# Altium footprint library TMDX654GPEVM_BRD.PcbLib: 153 footprints (part 5 of 12)
Each footprint in its own frame and in the unit in brackets; x right, y up, seen from the top. Pads: shape width x height; smd on the part's side, far side on the other; paste and mask are expansions set on the pad; w line width, h text height; cw(c..) or ccw(c..) is an arc to the next point about the centre after c.
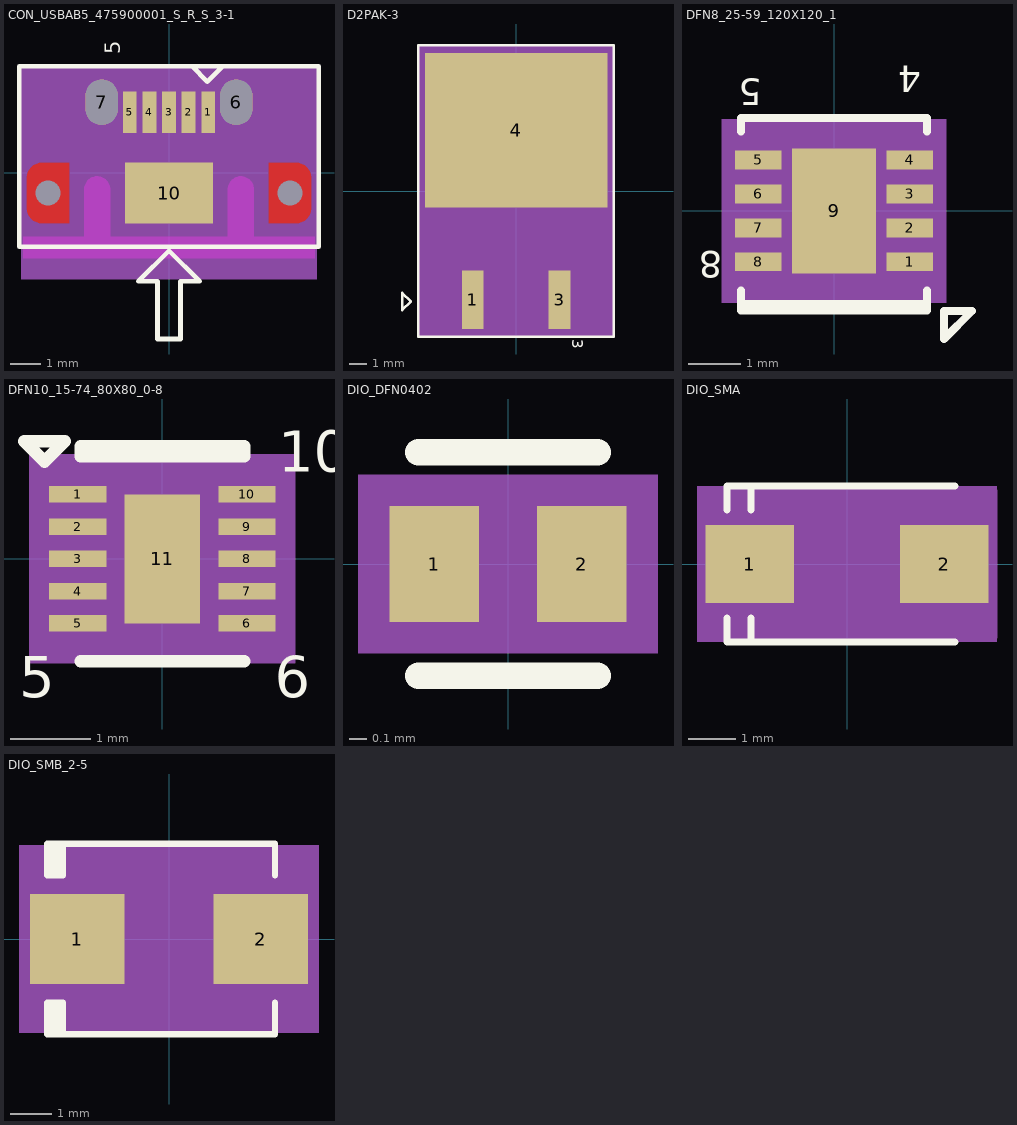
[diagram p4: the footprints below, top view; thin cyan lines are the x and y axes]

## CON_USBAB5_475900001_S_R_S_3-1 [mil] "CON_USBAB5_475900001_S_R_S_3-1"
pads (10):
  rect 18x54 smd: 1(51.18,78.81) 2(25.59,78.81) 3(0,78.81) 4(-25.59,78.81) 5(-51.18,78.81)
  oval 42x59 hole 42 slot 59 at 90 deg: 6(87.6,91.61) 7(-87.6,91.61)
  oct 1x1 hole 32: 8(-157.48,-26.5) 9(157.48,-26.5)
  rect 114x79 smd: 10(0,-26.5)
Top Layer:
  region: 129.92,-66 165.35,-66 167.07,-65.93 168.77,-65.7 170.45,-65.33 172.09,-64.81 173.67,-64.16 175.2,-63.36 176.64,-62.44 178.01,-61.39 179.27,-60.23 180.43,-58.97 181.48,-57.61 182.4,-56.16 183.19,-54.63 183.85,-53.05 184.37,-51.41 184.74,-49.73 184.96,-48.03 185.04,-46.31 185.04,-6.68 184.96,-4.97 184.74,-3.27 184.37,-1.59 183.85,0.05 183.19,1.63 182.4,3.16 181.48,4.61 180.43,5.97 179.27,7.23 178.01,8.39 176.64,9.44 175.2,10.36 173.67,11.16 172.09,11.81 170.45,12.33 168.77,12.7 167.07,12.93 165.35,13 129.92,13
  region: 129.92,-66 165.35,-66 167.07,-65.93 168.77,-65.7 170.45,-65.33 172.09,-64.81 173.67,-64.16 175.2,-63.36 176.64,-62.44 178.01,-61.39 179.27,-60.23 180.43,-58.97 181.48,-57.61 182.4,-56.16 183.19,-54.63 183.85,-53.05 184.37,-51.41 184.74,-49.73 184.96,-48.03 185.04,-46.31 185.04,-6.68 184.96,-4.97 184.74,-3.27 184.37,-1.59 183.85,0.05 183.19,1.63 182.4,3.16 181.48,4.61 180.43,5.97 179.27,7.23 178.01,8.39 176.64,9.44 175.2,10.36 173.67,11.16 172.09,11.81 170.45,12.33 168.77,12.7 167.07,12.93 165.35,13 129.92,13
  region: -129.92,13 -165.35,13 -167.07,12.93 -168.77,12.7 -170.45,12.33 -172.09,11.81 -173.67,11.16 -175.2,10.36 -176.64,9.44 -178.01,8.39 -179.27,7.23 -180.43,5.97 -181.48,4.61 -182.4,3.16 -183.19,1.63 -183.85,0.05 -184.37,-1.59 -184.74,-3.27 -184.96,-4.97 -185.04,-6.68 -185.04,-46.31 -184.96,-48.03 -184.74,-49.73 -184.37,-51.41 -183.85,-53.05 -183.19,-54.63 -182.4,-56.16 -181.48,-57.61 -180.43,-58.97 -179.27,-60.23 -178.01,-61.39 -176.64,-62.44 -175.2,-63.36 -173.67,-64.16 -172.09,-64.81 -170.45,-65.33 -168.77,-65.7 -167.07,-65.93 -165.35,-66 -129.92,-66
  region: -129.92,13 -165.35,13 -167.07,12.93 -168.77,12.7 -170.45,12.33 -172.09,11.81 -173.67,11.16 -175.2,10.36 -176.64,9.44 -178.01,8.39 -179.27,7.23 -180.43,5.97 -181.48,4.61 -182.4,3.16 -183.19,1.63 -183.85,0.05 -184.37,-1.59 -184.74,-3.27 -184.96,-4.97 -185.04,-6.68 -185.04,-46.31 -184.96,-48.03 -184.74,-49.73 -184.37,-51.41 -183.85,-53.05 -183.19,-54.63 -182.4,-56.16 -181.48,-57.61 -180.43,-58.97 -179.27,-60.23 -178.01,-61.39 -176.64,-62.44 -175.2,-63.36 -173.67,-64.16 -172.09,-64.81 -170.45,-65.33 -168.77,-65.7 -167.07,-65.93 -165.35,-66 -129.92,-66
Mid-Layer 1:
  region: 129.92,-66 165.35,-66 167.07,-65.93 168.77,-65.7 170.45,-65.33 172.09,-64.81 173.67,-64.16 175.2,-63.36 176.64,-62.44 178.01,-61.39 179.27,-60.23 180.43,-58.97 181.48,-57.61 182.4,-56.16 183.19,-54.63 183.85,-53.05 184.37,-51.41 184.74,-49.73 184.96,-48.03 185.04,-46.31 185.04,-6.68 184.96,-4.97 184.74,-3.27 184.37,-1.59 183.85,0.05 183.19,1.63 182.4,3.16 181.48,4.61 180.43,5.97 179.27,7.23 178.01,8.39 176.64,9.44 175.2,10.36 173.67,11.16 172.09,11.81 170.45,12.33 168.77,12.7 167.07,12.93 165.35,13 129.92,13
  region: 129.92,-66 165.35,-66 167.07,-65.93 168.77,-65.7 170.45,-65.33 172.09,-64.81 173.67,-64.16 175.2,-63.36 176.64,-62.44 178.01,-61.39 179.27,-60.23 180.43,-58.97 181.48,-57.61 182.4,-56.16 183.19,-54.63 183.85,-53.05 184.37,-51.41 184.74,-49.73 184.96,-48.03 185.04,-46.31 185.04,-6.68 184.96,-4.97 184.74,-3.27 184.37,-1.59 183.85,0.05 183.19,1.63 182.4,3.16 181.48,4.61 180.43,5.97 179.27,7.23 178.01,8.39 176.64,9.44 175.2,10.36 173.67,11.16 172.09,11.81 170.45,12.33 168.77,12.7 167.07,12.93 165.35,13 129.92,13
  region: -129.92,13 -165.35,13 -167.07,12.93 -168.77,12.7 -170.45,12.33 -172.09,11.81 -173.67,11.16 -175.2,10.36 -176.64,9.44 -178.01,8.39 -179.27,7.23 -180.43,5.97 -181.48,4.61 -182.4,3.16 -183.19,1.63 -183.85,0.05 -184.37,-1.59 -184.74,-3.27 -184.96,-4.97 -185.04,-6.68 -185.04,-46.31 -184.96,-48.03 -184.74,-49.73 -184.37,-51.41 -183.85,-53.05 -183.19,-54.63 -182.4,-56.16 -181.48,-57.61 -180.43,-58.97 -179.27,-60.23 -178.01,-61.39 -176.64,-62.44 -175.2,-63.36 -173.67,-64.16 -172.09,-64.81 -170.45,-65.33 -168.77,-65.7 -167.07,-65.93 -165.35,-66 -129.92,-66
  region: -129.92,13 -165.35,13 -167.07,12.93 -168.77,12.7 -170.45,12.33 -172.09,11.81 -173.67,11.16 -175.2,10.36 -176.64,9.44 -178.01,8.39 -179.27,7.23 -180.43,5.97 -181.48,4.61 -182.4,3.16 -183.19,1.63 -183.85,0.05 -184.37,-1.59 -184.74,-3.27 -184.96,-4.97 -185.04,-6.68 -185.04,-46.31 -184.96,-48.03 -184.74,-49.73 -184.37,-51.41 -183.85,-53.05 -183.19,-54.63 -182.4,-56.16 -181.48,-57.61 -180.43,-58.97 -179.27,-60.23 -178.01,-61.39 -176.64,-62.44 -175.2,-63.36 -173.67,-64.16 -172.09,-64.81 -170.45,-65.33 -168.77,-65.7 -167.07,-65.93 -165.35,-66 -129.92,-66
Mid-Layer 2:
  region: 129.92,-66 165.35,-66 167.07,-65.93 168.77,-65.7 170.45,-65.33 172.09,-64.81 173.67,-64.16 175.2,-63.36 176.64,-62.44 178.01,-61.39 179.27,-60.23 180.43,-58.97 181.48,-57.61 182.4,-56.16 183.19,-54.63 183.85,-53.05 184.37,-51.41 184.74,-49.73 184.96,-48.03 185.04,-46.31 185.04,-6.68 184.96,-4.97 184.74,-3.27 184.37,-1.59 183.85,0.05 183.19,1.63 182.4,3.16 181.48,4.61 180.43,5.97 179.27,7.23 178.01,8.39 176.64,9.44 175.2,10.36 173.67,11.16 172.09,11.81 170.45,12.33 168.77,12.7 167.07,12.93 165.35,13 129.92,13
  region: 129.92,-66 165.35,-66 167.07,-65.93 168.77,-65.7 170.45,-65.33 172.09,-64.81 173.67,-64.16 175.2,-63.36 176.64,-62.44 178.01,-61.39 179.27,-60.23 180.43,-58.97 181.48,-57.61 182.4,-56.16 183.19,-54.63 183.85,-53.05 184.37,-51.41 184.74,-49.73 184.96,-48.03 185.04,-46.31 185.04,-6.68 184.96,-4.97 184.74,-3.27 184.37,-1.59 183.85,0.05 183.19,1.63 182.4,3.16 181.48,4.61 180.43,5.97 179.27,7.23 178.01,8.39 176.64,9.44 175.2,10.36 173.67,11.16 172.09,11.81 170.45,12.33 168.77,12.7 167.07,12.93 165.35,13 129.92,13
  region: -129.92,13 -165.35,13 -167.07,12.93 -168.77,12.7 -170.45,12.33 -172.09,11.81 -173.67,11.16 -175.2,10.36 -176.64,9.44 -178.01,8.39 -179.27,7.23 -180.43,5.97 -181.48,4.61 -182.4,3.16 -183.19,1.63 -183.85,0.05 -184.37,-1.59 -184.74,-3.27 -184.96,-4.97 -185.04,-6.68 -185.04,-46.31 -184.96,-48.03 -184.74,-49.73 -184.37,-51.41 -183.85,-53.05 -183.19,-54.63 -182.4,-56.16 -181.48,-57.61 -180.43,-58.97 -179.27,-60.23 -178.01,-61.39 -176.64,-62.44 -175.2,-63.36 -173.67,-64.16 -172.09,-64.81 -170.45,-65.33 -168.77,-65.7 -167.07,-65.93 -165.35,-66 -129.92,-66
  region: -129.92,13 -165.35,13 -167.07,12.93 -168.77,12.7 -170.45,12.33 -172.09,11.81 -173.67,11.16 -175.2,10.36 -176.64,9.44 -178.01,8.39 -179.27,7.23 -180.43,5.97 -181.48,4.61 -182.4,3.16 -183.19,1.63 -183.85,0.05 -184.37,-1.59 -184.74,-3.27 -184.96,-4.97 -185.04,-6.68 -185.04,-46.31 -184.96,-48.03 -184.74,-49.73 -184.37,-51.41 -183.85,-53.05 -183.19,-54.63 -182.4,-56.16 -181.48,-57.61 -180.43,-58.97 -179.27,-60.23 -178.01,-61.39 -176.64,-62.44 -175.2,-63.36 -173.67,-64.16 -172.09,-64.81 -170.45,-65.33 -168.77,-65.7 -167.07,-65.93 -165.35,-66 -129.92,-66
Mid-Layer 3:
  region: 129.92,-66 165.35,-66 167.07,-65.93 168.77,-65.7 170.45,-65.33 172.09,-64.81 173.67,-64.16 175.2,-63.36 176.64,-62.44 178.01,-61.39 179.27,-60.23 180.43,-58.97 181.48,-57.61 182.4,-56.16 183.19,-54.63 183.85,-53.05 184.37,-51.41 184.74,-49.73 184.96,-48.03 185.04,-46.31 185.04,-6.68 184.96,-4.97 184.74,-3.27 184.37,-1.59 183.85,0.05 183.19,1.63 182.4,3.16 181.48,4.61 180.43,5.97 179.27,7.23 178.01,8.39 176.64,9.44 175.2,10.36 173.67,11.16 172.09,11.81 170.45,12.33 168.77,12.7 167.07,12.93 165.35,13 129.92,13
  region: 129.92,-66 165.35,-66 167.07,-65.93 168.77,-65.7 170.45,-65.33 172.09,-64.81 173.67,-64.16 175.2,-63.36 176.64,-62.44 178.01,-61.39 179.27,-60.23 180.43,-58.97 181.48,-57.61 182.4,-56.16 183.19,-54.63 183.85,-53.05 184.37,-51.41 184.74,-49.73 184.96,-48.03 185.04,-46.31 185.04,-6.68 184.96,-4.97 184.74,-3.27 184.37,-1.59 183.85,0.05 183.19,1.63 182.4,3.16 181.48,4.61 180.43,5.97 179.27,7.23 178.01,8.39 176.64,9.44 175.2,10.36 173.67,11.16 172.09,11.81 170.45,12.33 168.77,12.7 167.07,12.93 165.35,13 129.92,13
  region: -129.92,13 -165.35,13 -167.07,12.93 -168.77,12.7 -170.45,12.33 -172.09,11.81 -173.67,11.16 -175.2,10.36 -176.64,9.44 -178.01,8.39 -179.27,7.23 -180.43,5.97 -181.48,4.61 -182.4,3.16 -183.19,1.63 -183.85,0.05 -184.37,-1.59 -184.74,-3.27 -184.96,-4.97 -185.04,-6.68 -185.04,-46.31 -184.96,-48.03 -184.74,-49.73 -184.37,-51.41 -183.85,-53.05 -183.19,-54.63 -182.4,-56.16 -181.48,-57.61 -180.43,-58.97 -179.27,-60.23 -178.01,-61.39 -176.64,-62.44 -175.2,-63.36 -173.67,-64.16 -172.09,-64.81 -170.45,-65.33 -168.77,-65.7 -167.07,-65.93 -165.35,-66 -129.92,-66
  region: -129.92,13 -165.35,13 -167.07,12.93 -168.77,12.7 -170.45,12.33 -172.09,11.81 -173.67,11.16 -175.2,10.36 -176.64,9.44 -178.01,8.39 -179.27,7.23 -180.43,5.97 -181.48,4.61 -182.4,3.16 -183.19,1.63 -183.85,0.05 -184.37,-1.59 -184.74,-3.27 -184.96,-4.97 -185.04,-6.68 -185.04,-46.31 -184.96,-48.03 -184.74,-49.73 -184.37,-51.41 -183.85,-53.05 -183.19,-54.63 -182.4,-56.16 -181.48,-57.61 -180.43,-58.97 -179.27,-60.23 -178.01,-61.39 -176.64,-62.44 -175.2,-63.36 -173.67,-64.16 -172.09,-64.81 -170.45,-65.33 -168.77,-65.7 -167.07,-65.93 -165.35,-66 -129.92,-66
Mid-Layer 4:
  region: 129.92,-66 165.35,-66 167.07,-65.93 168.77,-65.7 170.45,-65.33 172.09,-64.81 173.67,-64.16 175.2,-63.36 176.64,-62.44 178.01,-61.39 179.27,-60.23 180.43,-58.97 181.48,-57.61 182.4,-56.16 183.19,-54.63 183.85,-53.05 184.37,-51.41 184.74,-49.73 184.96,-48.03 185.04,-46.31 185.04,-6.68 184.96,-4.97 184.74,-3.27 184.37,-1.59 183.85,0.05 183.19,1.63 182.4,3.16 181.48,4.61 180.43,5.97 179.27,7.23 178.01,8.39 176.64,9.44 175.2,10.36 173.67,11.16 172.09,11.81 170.45,12.33 168.77,12.7 167.07,12.93 165.35,13 129.92,13
  region: 129.92,-66 165.35,-66 167.07,-65.93 168.77,-65.7 170.45,-65.33 172.09,-64.81 173.67,-64.16 175.2,-63.36 176.64,-62.44 178.01,-61.39 179.27,-60.23 180.43,-58.97 181.48,-57.61 182.4,-56.16 183.19,-54.63 183.85,-53.05 184.37,-51.41 184.74,-49.73 184.96,-48.03 185.04,-46.31 185.04,-6.68 184.96,-4.97 184.74,-3.27 184.37,-1.59 183.85,0.05 183.19,1.63 182.4,3.16 181.48,4.61 180.43,5.97 179.27,7.23 178.01,8.39 176.64,9.44 175.2,10.36 173.67,11.16 172.09,11.81 170.45,12.33 168.77,12.7 167.07,12.93 165.35,13 129.92,13
  region: -129.92,13 -165.35,13 -167.07,12.93 -168.77,12.7 -170.45,12.33 -172.09,11.81 -173.67,11.16 -175.2,10.36 -176.64,9.44 -178.01,8.39 -179.27,7.23 -180.43,5.97 -181.48,4.61 -182.4,3.16 -183.19,1.63 -183.85,0.05 -184.37,-1.59 -184.74,-3.27 -184.96,-4.97 -185.04,-6.68 -185.04,-46.31 -184.96,-48.03 -184.74,-49.73 -184.37,-51.41 -183.85,-53.05 -183.19,-54.63 -182.4,-56.16 -181.48,-57.61 -180.43,-58.97 -179.27,-60.23 -178.01,-61.39 -176.64,-62.44 -175.2,-63.36 -173.67,-64.16 -172.09,-64.81 -170.45,-65.33 -168.77,-65.7 -167.07,-65.93 -165.35,-66 -129.92,-66
  region: -129.92,13 -165.35,13 -167.07,12.93 -168.77,12.7 -170.45,12.33 -172.09,11.81 -173.67,11.16 -175.2,10.36 -176.64,9.44 -178.01,8.39 -179.27,7.23 -180.43,5.97 -181.48,4.61 -182.4,3.16 -183.19,1.63 -183.85,0.05 -184.37,-1.59 -184.74,-3.27 -184.96,-4.97 -185.04,-6.68 -185.04,-46.31 -184.96,-48.03 -184.74,-49.73 -184.37,-51.41 -183.85,-53.05 -183.19,-54.63 -182.4,-56.16 -181.48,-57.61 -180.43,-58.97 -179.27,-60.23 -178.01,-61.39 -176.64,-62.44 -175.2,-63.36 -173.67,-64.16 -172.09,-64.81 -170.45,-65.33 -168.77,-65.7 -167.07,-65.93 -165.35,-66 -129.92,-66
Mid-Layer 5:
  region: 129.92,-66 165.35,-66 167.07,-65.93 168.77,-65.7 170.45,-65.33 172.09,-64.81 173.67,-64.16 175.2,-63.36 176.64,-62.44 178.01,-61.39 179.27,-60.23 180.43,-58.97 181.48,-57.61 182.4,-56.16 183.19,-54.63 183.85,-53.05 184.37,-51.41 184.74,-49.73 184.96,-48.03 185.04,-46.31 185.04,-6.68 184.96,-4.97 184.74,-3.27 184.37,-1.59 183.85,0.05 183.19,1.63 182.4,3.16 181.48,4.61 180.43,5.97 179.27,7.23 178.01,8.39 176.64,9.44 175.2,10.36 173.67,11.16 172.09,11.81 170.45,12.33 168.77,12.7 167.07,12.93 165.35,13 129.92,13
  region: 129.92,-66 165.35,-66 167.07,-65.93 168.77,-65.7 170.45,-65.33 172.09,-64.81 173.67,-64.16 175.2,-63.36 176.64,-62.44 178.01,-61.39 179.27,-60.23 180.43,-58.97 181.48,-57.61 182.4,-56.16 183.19,-54.63 183.85,-53.05 184.37,-51.41 184.74,-49.73 184.96,-48.03 185.04,-46.31 185.04,-6.68 184.96,-4.97 184.74,-3.27 184.37,-1.59 183.85,0.05 183.19,1.63 182.4,3.16 181.48,4.61 180.43,5.97 179.27,7.23 178.01,8.39 176.64,9.44 175.2,10.36 173.67,11.16 172.09,11.81 170.45,12.33 168.77,12.7 167.07,12.93 165.35,13 129.92,13
  region: -129.92,13 -165.35,13 -167.07,12.93 -168.77,12.7 -170.45,12.33 -172.09,11.81 -173.67,11.16 -175.2,10.36 -176.64,9.44 -178.01,8.39 -179.27,7.23 -180.43,5.97 -181.48,4.61 -182.4,3.16 -183.19,1.63 -183.85,0.05 -184.37,-1.59 -184.74,-3.27 -184.96,-4.97 -185.04,-6.68 -185.04,-46.31 -184.96,-48.03 -184.74,-49.73 -184.37,-51.41 -183.85,-53.05 -183.19,-54.63 -182.4,-56.16 -181.48,-57.61 -180.43,-58.97 -179.27,-60.23 -178.01,-61.39 -176.64,-62.44 -175.2,-63.36 -173.67,-64.16 -172.09,-64.81 -170.45,-65.33 -168.77,-65.7 -167.07,-65.93 -165.35,-66 -129.92,-66
  region: -129.92,13 -165.35,13 -167.07,12.93 -168.77,12.7 -170.45,12.33 -172.09,11.81 -173.67,11.16 -175.2,10.36 -176.64,9.44 -178.01,8.39 -179.27,7.23 -180.43,5.97 -181.48,4.61 -182.4,3.16 -183.19,1.63 -183.85,0.05 -184.37,-1.59 -184.74,-3.27 -184.96,-4.97 -185.04,-6.68 -185.04,-46.31 -184.96,-48.03 -184.74,-49.73 -184.37,-51.41 -183.85,-53.05 -183.19,-54.63 -182.4,-56.16 -181.48,-57.61 -180.43,-58.97 -179.27,-60.23 -178.01,-61.39 -176.64,-62.44 -175.2,-63.36 -173.67,-64.16 -172.09,-64.81 -170.45,-65.33 -168.77,-65.7 -167.07,-65.93 -165.35,-66 -129.92,-66
Mid-Layer 6:
  region: 129.92,-66 165.35,-66 167.07,-65.93 168.77,-65.7 170.45,-65.33 172.09,-64.81 173.67,-64.16 175.2,-63.36 176.64,-62.44 178.01,-61.39 179.27,-60.23 180.43,-58.97 181.48,-57.61 182.4,-56.16 183.19,-54.63 183.85,-53.05 184.37,-51.41 184.74,-49.73 184.96,-48.03 185.04,-46.31 185.04,-6.68 184.96,-4.97 184.74,-3.27 184.37,-1.59 183.85,0.05 183.19,1.63 182.4,3.16 181.48,4.61 180.43,5.97 179.27,7.23 178.01,8.39 176.64,9.44 175.2,10.36 173.67,11.16 172.09,11.81 170.45,12.33 168.77,12.7 167.07,12.93 165.35,13 129.92,13
  region: 129.92,-66 165.35,-66 167.07,-65.93 168.77,-65.7 170.45,-65.33 172.09,-64.81 173.67,-64.16 175.2,-63.36 176.64,-62.44 178.01,-61.39 179.27,-60.23 180.43,-58.97 181.48,-57.61 182.4,-56.16 183.19,-54.63 183.85,-53.05 184.37,-51.41 184.74,-49.73 184.96,-48.03 185.04,-46.31 185.04,-6.68 184.96,-4.97 184.74,-3.27 184.37,-1.59 183.85,0.05 183.19,1.63 182.4,3.16 181.48,4.61 180.43,5.97 179.27,7.23 178.01,8.39 176.64,9.44 175.2,10.36 173.67,11.16 172.09,11.81 170.45,12.33 168.77,12.7 167.07,12.93 165.35,13 129.92,13
  region: -129.92,13 -165.35,13 -167.07,12.93 -168.77,12.7 -170.45,12.33 -172.09,11.81 -173.67,11.16 -175.2,10.36 -176.64,9.44 -178.01,8.39 -179.27,7.23 -180.43,5.97 -181.48,4.61 -182.4,3.16 -183.19,1.63 -183.85,0.05 -184.37,-1.59 -184.74,-3.27 -184.96,-4.97 -185.04,-6.68 -185.04,-46.31 -184.96,-48.03 -184.74,-49.73 -184.37,-51.41 -183.85,-53.05 -183.19,-54.63 -182.4,-56.16 -181.48,-57.61 -180.43,-58.97 -179.27,-60.23 -178.01,-61.39 -176.64,-62.44 -175.2,-63.36 -173.67,-64.16 -172.09,-64.81 -170.45,-65.33 -168.77,-65.7 -167.07,-65.93 -165.35,-66 -129.92,-66
  region: -129.92,13 -165.35,13 -167.07,12.93 -168.77,12.7 -170.45,12.33 -172.09,11.81 -173.67,11.16 -175.2,10.36 -176.64,9.44 -178.01,8.39 -179.27,7.23 -180.43,5.97 -181.48,4.61 -182.4,3.16 -183.19,1.63 -183.85,0.05 -184.37,-1.59 -184.74,-3.27 -184.96,-4.97 -185.04,-6.68 -185.04,-46.31 -184.96,-48.03 -184.74,-49.73 -184.37,-51.41 -183.85,-53.05 -183.19,-54.63 -182.4,-56.16 -181.48,-57.61 -180.43,-58.97 -179.27,-60.23 -178.01,-61.39 -176.64,-62.44 -175.2,-63.36 -173.67,-64.16 -172.09,-64.81 -170.45,-65.33 -168.77,-65.7 -167.07,-65.93 -165.35,-66 -129.92,-66
Mid-Layer 7:
  region: 129.92,-66 165.35,-66 167.07,-65.93 168.77,-65.7 170.45,-65.33 172.09,-64.81 173.67,-64.16 175.2,-63.36 176.64,-62.44 178.01,-61.39 179.27,-60.23 180.43,-58.97 181.48,-57.61 182.4,-56.16 183.19,-54.63 183.85,-53.05 184.37,-51.41 184.74,-49.73 184.96,-48.03 185.04,-46.31 185.04,-6.68 184.96,-4.97 184.74,-3.27 184.37,-1.59 183.85,0.05 183.19,1.63 182.4,3.16 181.48,4.61 180.43,5.97 179.27,7.23 178.01,8.39 176.64,9.44 175.2,10.36 173.67,11.16 172.09,11.81 170.45,12.33 168.77,12.7 167.07,12.93 165.35,13 129.92,13
  region: 129.92,-66 165.35,-66 167.07,-65.93 168.77,-65.7 170.45,-65.33 172.09,-64.81 173.67,-64.16 175.2,-63.36 176.64,-62.44 178.01,-61.39 179.27,-60.23 180.43,-58.97 181.48,-57.61 182.4,-56.16 183.19,-54.63 183.85,-53.05 184.37,-51.41 184.74,-49.73 184.96,-48.03 185.04,-46.31 185.04,-6.68 184.96,-4.97 184.74,-3.27 184.37,-1.59 183.85,0.05 183.19,1.63 182.4,3.16 181.48,4.61 180.43,5.97 179.27,7.23 178.01,8.39 176.64,9.44 175.2,10.36 173.67,11.16 172.09,11.81 170.45,12.33 168.77,12.7 167.07,12.93 165.35,13 129.92,13
  region: -129.92,13 -165.35,13 -167.07,12.93 -168.77,12.7 -170.45,12.33 -172.09,11.81 -173.67,11.16 -175.2,10.36 -176.64,9.44 -178.01,8.39 -179.27,7.23 -180.43,5.97 -181.48,4.61 -182.4,3.16 -183.19,1.63 -183.85,0.05 -184.37,-1.59 -184.74,-3.27 -184.96,-4.97 -185.04,-6.68 -185.04,-46.31 -184.96,-48.03 -184.74,-49.73 -184.37,-51.41 -183.85,-53.05 -183.19,-54.63 -182.4,-56.16 -181.48,-57.61 -180.43,-58.97 -179.27,-60.23 -178.01,-61.39 -176.64,-62.44 -175.2,-63.36 -173.67,-64.16 -172.09,-64.81 -170.45,-65.33 -168.77,-65.7 -167.07,-65.93 -165.35,-66 -129.92,-66
  region: -129.92,13 -165.35,13 -167.07,12.93 -168.77,12.7 -170.45,12.33 -172.09,11.81 -173.67,11.16 -175.2,10.36 -176.64,9.44 -178.01,8.39 -179.27,7.23 -180.43,5.97 -181.48,4.61 -182.4,3.16 -183.19,1.63 -183.85,0.05 -184.37,-1.59 -184.74,-3.27 -184.96,-4.97 -185.04,-6.68 -185.04,-46.31 -184.96,-48.03 -184.74,-49.73 -184.37,-51.41 -183.85,-53.05 -183.19,-54.63 -182.4,-56.16 -181.48,-57.61 -180.43,-58.97 -179.27,-60.23 -178.01,-61.39 -176.64,-62.44 -175.2,-63.36 -173.67,-64.16 -172.09,-64.81 -170.45,-65.33 -168.77,-65.7 -167.07,-65.93 -165.35,-66 -129.92,-66
Mid-Layer 8:
  region: 129.92,-66 165.35,-66 167.07,-65.93 168.77,-65.7 170.45,-65.33 172.09,-64.81 173.67,-64.16 175.2,-63.36 176.64,-62.44 178.01,-61.39 179.27,-60.23 180.43,-58.97 181.48,-57.61 182.4,-56.16 183.19,-54.63 183.85,-53.05 184.37,-51.41 184.74,-49.73 184.96,-48.03 185.04,-46.31 185.04,-6.68 184.96,-4.97 184.74,-3.27 184.37,-1.59 183.85,0.05 183.19,1.63 182.4,3.16 181.48,4.61 180.43,5.97 179.27,7.23 178.01,8.39 176.64,9.44 175.2,10.36 173.67,11.16 172.09,11.81 170.45,12.33 168.77,12.7 167.07,12.93 165.35,13 129.92,13
  region: 129.92,-66 165.35,-66 167.07,-65.93 168.77,-65.7 170.45,-65.33 172.09,-64.81 173.67,-64.16 175.2,-63.36 176.64,-62.44 178.01,-61.39 179.27,-60.23 180.43,-58.97 181.48,-57.61 182.4,-56.16 183.19,-54.63 183.85,-53.05 184.37,-51.41 184.74,-49.73 184.96,-48.03 185.04,-46.31 185.04,-6.68 184.96,-4.97 184.74,-3.27 184.37,-1.59 183.85,0.05 183.19,1.63 182.4,3.16 181.48,4.61 180.43,5.97 179.27,7.23 178.01,8.39 176.64,9.44 175.2,10.36 173.67,11.16 172.09,11.81 170.45,12.33 168.77,12.7 167.07,12.93 165.35,13 129.92,13
  region: -129.92,13 -165.35,13 -167.07,12.93 -168.77,12.7 -170.45,12.33 -172.09,11.81 -173.67,11.16 -175.2,10.36 -176.64,9.44 -178.01,8.39 -179.27,7.23 -180.43,5.97 -181.48,4.61 -182.4,3.16 -183.19,1.63 -183.85,0.05 -184.37,-1.59 -184.74,-3.27 -184.96,-4.97 -185.04,-6.68 -185.04,-46.31 -184.96,-48.03 -184.74,-49.73 -184.37,-51.41 -183.85,-53.05 -183.19,-54.63 -182.4,-56.16 -181.48,-57.61 -180.43,-58.97 -179.27,-60.23 -178.01,-61.39 -176.64,-62.44 -175.2,-63.36 -173.67,-64.16 -172.09,-64.81 -170.45,-65.33 -168.77,-65.7 -167.07,-65.93 -165.35,-66 -129.92,-66
  region: -129.92,13 -165.35,13 -167.07,12.93 -168.77,12.7 -170.45,12.33 -172.09,11.81 -173.67,11.16 -175.2,10.36 -176.64,9.44 -178.01,8.39 -179.27,7.23 -180.43,5.97 -181.48,4.61 -182.4,3.16 -183.19,1.63 -183.85,0.05 -184.37,-1.59 -184.74,-3.27 -184.96,-4.97 -185.04,-6.68 -185.04,-46.31 -184.96,-48.03 -184.74,-49.73 -184.37,-51.41 -183.85,-53.05 -183.19,-54.63 -182.4,-56.16 -181.48,-57.61 -180.43,-58.97 -179.27,-60.23 -178.01,-61.39 -176.64,-62.44 -175.2,-63.36 -173.67,-64.16 -172.09,-64.81 -170.45,-65.33 -168.77,-65.7 -167.07,-65.93 -165.35,-66 -129.92,-66
Mid-Layer 9:
  region: 129.92,-66 165.35,-66 167.07,-65.93 168.77,-65.7 170.45,-65.33 172.09,-64.81 173.67,-64.16 175.2,-63.36 176.64,-62.44 178.01,-61.39 179.27,-60.23 180.43,-58.97 181.48,-57.61 182.4,-56.16 183.19,-54.63 183.85,-53.05 184.37,-51.41 184.74,-49.73 184.96,-48.03 185.04,-46.31 185.04,-6.68 184.96,-4.97 184.74,-3.27 184.37,-1.59 183.85,0.05 183.19,1.63 182.4,3.16 181.48,4.61 180.43,5.97 179.27,7.23 178.01,8.39 176.64,9.44 175.2,10.36 173.67,11.16 172.09,11.81 170.45,12.33 168.77,12.7 167.07,12.93 165.35,13 129.92,13
  region: 129.92,-66 165.35,-66 167.07,-65.93 168.77,-65.7 170.45,-65.33 172.09,-64.81 173.67,-64.16 175.2,-63.36 176.64,-62.44 178.01,-61.39 179.27,-60.23 180.43,-58.97 181.48,-57.61 182.4,-56.16 183.19,-54.63 183.85,-53.05 184.37,-51.41 184.74,-49.73 184.96,-48.03 185.04,-46.31 185.04,-6.68 184.96,-4.97 184.74,-3.27 184.37,-1.59 183.85,0.05 183.19,1.63 182.4,3.16 181.48,4.61 180.43,5.97 179.27,7.23 178.01,8.39 176.64,9.44 175.2,10.36 173.67,11.16 172.09,11.81 170.45,12.33 168.77,12.7 167.07,12.93 165.35,13 129.92,13
  region: -129.92,13 -165.35,13 -167.07,12.93 -168.77,12.7 -170.45,12.33 -172.09,11.81 -173.67,11.16 -175.2,10.36 -176.64,9.44 -178.01,8.39 -179.27,7.23 -180.43,5.97 -181.48,4.61 -182.4,3.16 -183.19,1.63 -183.85,0.05 -184.37,-1.59 -184.74,-3.27 -184.96,-4.97 -185.04,-6.68 -185.04,-46.31 -184.96,-48.03 -184.74,-49.73 -184.37,-51.41 -183.85,-53.05 -183.19,-54.63 -182.4,-56.16 -181.48,-57.61 -180.43,-58.97 -179.27,-60.23 -178.01,-61.39 -176.64,-62.44 -175.2,-63.36 -173.67,-64.16 -172.09,-64.81 -170.45,-65.33 -168.77,-65.7 -167.07,-65.93 -165.35,-66 -129.92,-66
  region: -129.92,13 -165.35,13 -167.07,12.93 -168.77,12.7 -170.45,12.33 -172.09,11.81 -173.67,11.16 -175.2,10.36 -176.64,9.44 -178.01,8.39 -179.27,7.23 -180.43,5.97 -181.48,4.61 -182.4,3.16 -183.19,1.63 -183.85,0.05 -184.37,-1.59 -184.74,-3.27 -184.96,-4.97 -185.04,-6.68 -185.04,-46.31 -184.96,-48.03 -184.74,-49.73 -184.37,-51.41 -183.85,-53.05 -183.19,-54.63 -182.4,-56.16 -181.48,-57.61 -180.43,-58.97 -179.27,-60.23 -178.01,-61.39 -176.64,-62.44 -175.2,-63.36 -173.67,-64.16 -172.09,-64.81 -170.45,-65.33 -168.77,-65.7 -167.07,-65.93 -165.35,-66 -129.92,-66
Mid-Layer 10:
  region: 129.92,-66 165.35,-66 167.07,-65.93 168.77,-65.7 170.45,-65.33 172.09,-64.81 173.67,-64.16 175.2,-63.36 176.64,-62.44 178.01,-61.39 179.27,-60.23 180.43,-58.97 181.48,-57.61 182.4,-56.16 183.19,-54.63 183.85,-53.05 184.37,-51.41 184.74,-49.73 184.96,-48.03 185.04,-46.31 185.04,-6.68 184.96,-4.97 184.74,-3.27 184.37,-1.59 183.85,0.05 183.19,1.63 182.4,3.16 181.48,4.61 180.43,5.97 179.27,7.23 178.01,8.39 176.64,9.44 175.2,10.36 173.67,11.16 172.09,11.81 170.45,12.33 168.77,12.7 167.07,12.93 165.35,13 129.92,13
  region: 129.92,-66 165.35,-66 167.07,-65.93 168.77,-65.7 170.45,-65.33 172.09,-64.81 173.67,-64.16 175.2,-63.36 176.64,-62.44 178.01,-61.39 179.27,-60.23 180.43,-58.97 181.48,-57.61 182.4,-56.16 183.19,-54.63 183.85,-53.05 184.37,-51.41 184.74,-49.73 184.96,-48.03 185.04,-46.31 185.04,-6.68 184.96,-4.97 184.74,-3.27 184.37,-1.59 183.85,0.05 183.19,1.63 182.4,3.16 181.48,4.61 180.43,5.97 179.27,7.23 178.01,8.39 176.64,9.44 175.2,10.36 173.67,11.16 172.09,11.81 170.45,12.33 168.77,12.7 167.07,12.93 165.35,13 129.92,13
  region: -129.92,13 -165.35,13 -167.07,12.93 -168.77,12.7 -170.45,12.33 -172.09,11.81 -173.67,11.16 -175.2,10.36 -176.64,9.44 -178.01,8.39 -179.27,7.23 -180.43,5.97 -181.48,4.61 -182.4,3.16 -183.19,1.63 -183.85,0.05 -184.37,-1.59 -184.74,-3.27 -184.96,-4.97 -185.04,-6.68 -185.04,-46.31 -184.96,-48.03 -184.74,-49.73 -184.37,-51.41 -183.85,-53.05 -183.19,-54.63 -182.4,-56.16 -181.48,-57.61 -180.43,-58.97 -179.27,-60.23 -178.01,-61.39 -176.64,-62.44 -175.2,-63.36 -173.67,-64.16 -172.09,-64.81 -170.45,-65.33 -168.77,-65.7 -167.07,-65.93 -165.35,-66 -129.92,-66
  region: -129.92,13 -165.35,13 -167.07,12.93 -168.77,12.7 -170.45,12.33 -172.09,11.81 -173.67,11.16 -175.2,10.36 -176.64,9.44 -178.01,8.39 -179.27,7.23 -180.43,5.97 -181.48,4.61 -182.4,3.16 -183.19,1.63 -183.85,0.05 -184.37,-1.59 -184.74,-3.27 -184.96,-4.97 -185.04,-6.68 -185.04,-46.31 -184.96,-48.03 -184.74,-49.73 -184.37,-51.41 -183.85,-53.05 -183.19,-54.63 -182.4,-56.16 -181.48,-57.61 -180.43,-58.97 -179.27,-60.23 -178.01,-61.39 -176.64,-62.44 -175.2,-63.36 -173.67,-64.16 -172.09,-64.81 -170.45,-65.33 -168.77,-65.7 -167.07,-65.93 -165.35,-66 -129.92,-66
Mid-Layer 11:
  region: 129.92,-66 165.35,-66 167.07,-65.93 168.77,-65.7 170.45,-65.33 172.09,-64.81 173.67,-64.16 175.2,-63.36 176.64,-62.44 178.01,-61.39 179.27,-60.23 180.43,-58.97 181.48,-57.61 182.4,-56.16 183.19,-54.63 183.85,-53.05 184.37,-51.41 184.74,-49.73 184.96,-48.03 185.04,-46.31 185.04,-6.68 184.96,-4.97 184.74,-3.27 184.37,-1.59 183.85,0.05 183.19,1.63 182.4,3.16 181.48,4.61 180.43,5.97 179.27,7.23 178.01,8.39 176.64,9.44 175.2,10.36 173.67,11.16 172.09,11.81 170.45,12.33 168.77,12.7 167.07,12.93 165.35,13 129.92,13
  region: 129.92,-66 165.35,-66 167.07,-65.93 168.77,-65.7 170.45,-65.33 172.09,-64.81 173.67,-64.16 175.2,-63.36 176.64,-62.44 178.01,-61.39 179.27,-60.23 180.43,-58.97 181.48,-57.61 182.4,-56.16 183.19,-54.63 183.85,-53.05 184.37,-51.41 184.74,-49.73 184.96,-48.03 185.04,-46.31 185.04,-6.68 184.96,-4.97 184.74,-3.27 184.37,-1.59 183.85,0.05 183.19,1.63 182.4,3.16 181.48,4.61 180.43,5.97 179.27,7.23 178.01,8.39 176.64,9.44 175.2,10.36 173.67,11.16 172.09,11.81 170.45,12.33 168.77,12.7 167.07,12.93 165.35,13 129.92,13
  region: -129.92,13 -165.35,13 -167.07,12.93 -168.77,12.7 -170.45,12.33 -172.09,11.81 -173.67,11.16 -175.2,10.36 -176.64,9.44 -178.01,8.39 -179.27,7.23 -180.43,5.97 -181.48,4.61 -182.4,3.16 -183.19,1.63 -183.85,0.05 -184.37,-1.59 -184.74,-3.27 -184.96,-4.97 -185.04,-6.68 -185.04,-46.31 -184.96,-48.03 -184.74,-49.73 -184.37,-51.41 -183.85,-53.05 -183.19,-54.63 -182.4,-56.16 -181.48,-57.61 -180.43,-58.97 -179.27,-60.23 -178.01,-61.39 -176.64,-62.44 -175.2,-63.36 -173.67,-64.16 -172.09,-64.81 -170.45,-65.33 -168.77,-65.7 -167.07,-65.93 -165.35,-66 -129.92,-66
  region: -129.92,13 -165.35,13 -167.07,12.93 -168.77,12.7 -170.45,12.33 -172.09,11.81 -173.67,11.16 -175.2,10.36 -176.64,9.44 -178.01,8.39 -179.27,7.23 -180.43,5.97 -181.48,4.61 -182.4,3.16 -183.19,1.63 -183.85,0.05 -184.37,-1.59 -184.74,-3.27 -184.96,-4.97 -185.04,-6.68 -185.04,-46.31 -184.96,-48.03 -184.74,-49.73 -184.37,-51.41 -183.85,-53.05 -183.19,-54.63 -182.4,-56.16 -181.48,-57.61 -180.43,-58.97 -179.27,-60.23 -178.01,-61.39 -176.64,-62.44 -175.2,-63.36 -173.67,-64.16 -172.09,-64.81 -170.45,-65.33 -168.77,-65.7 -167.07,-65.93 -165.35,-66 -129.92,-66
Mid-Layer 12:
  region: 129.92,-66 165.35,-66 167.07,-65.93 168.77,-65.7 170.45,-65.33 172.09,-64.81 173.67,-64.16 175.2,-63.36 176.64,-62.44 178.01,-61.39 179.27,-60.23 180.43,-58.97 181.48,-57.61 182.4,-56.16 183.19,-54.63 183.85,-53.05 184.37,-51.41 184.74,-49.73 184.96,-48.03 185.04,-46.31 185.04,-6.68 184.96,-4.97 184.74,-3.27 184.37,-1.59 183.85,0.05 183.19,1.63 182.4,3.16 181.48,4.61 180.43,5.97 179.27,7.23 178.01,8.39 176.64,9.44 175.2,10.36 173.67,11.16 172.09,11.81 170.45,12.33 168.77,12.7 167.07,12.93 165.35,13 129.92,13
  region: 129.92,-66 165.35,-66 167.07,-65.93 168.77,-65.7 170.45,-65.33 172.09,-64.81 173.67,-64.16 175.2,-63.36 176.64,-62.44 178.01,-61.39 179.27,-60.23 180.43,-58.97 181.48,-57.61 182.4,-56.16 183.19,-54.63 183.85,-53.05 184.37,-51.41 184.74,-49.73 184.96,-48.03 185.04,-46.31 185.04,-6.68 184.96,-4.97 184.74,-3.27 184.37,-1.59 183.85,0.05 183.19,1.63 182.4,3.16 181.48,4.61 180.43,5.97 179.27,7.23 178.01,8.39 176.64,9.44 175.2,10.36 173.67,11.16 172.09,11.81 170.45,12.33 168.77,12.7 167.07,12.93 165.35,13 129.92,13
  region: -129.92,13 -165.35,13 -167.07,12.93 -168.77,12.7 -170.45,12.33 -172.09,11.81 -173.67,11.16 -175.2,10.36 -176.64,9.44 -178.01,8.39 -179.27,7.23 -180.43,5.97 -181.48,4.61 -182.4,3.16 -183.19,1.63 -183.85,0.05 -184.37,-1.59 -184.74,-3.27 -184.96,-4.97 -185.04,-6.68 -185.04,-46.31 -184.96,-48.03 -184.74,-49.73 -184.37,-51.41 -183.85,-53.05 -183.19,-54.63 -182.4,-56.16 -181.48,-57.61 -180.43,-58.97 -179.27,-60.23 -178.01,-61.39 -176.64,-62.44 -175.2,-63.36 -173.67,-64.16 -172.09,-64.81 -170.45,-65.33 -168.77,-65.7 -167.07,-65.93 -165.35,-66 -129.92,-66
  region: -129.92,13 -165.35,13 -167.07,12.93 -168.77,12.7 -170.45,12.33 -172.09,11.81 -173.67,11.16 -175.2,10.36 -176.64,9.44 -178.01,8.39 -179.27,7.23 -180.43,5.97 -181.48,4.61 -182.4,3.16 -183.19,1.63 -183.85,0.05 -184.37,-1.59 -184.74,-3.27 -184.96,-4.97 -185.04,-6.68 -185.04,-46.31 -184.96,-48.03 -184.74,-49.73 -184.37,-51.41 -183.85,-53.05 -183.19,-54.63 -182.4,-56.16 -181.48,-57.61 -180.43,-58.97 -179.27,-60.23 -178.01,-61.39 -176.64,-62.44 -175.2,-63.36 -173.67,-64.16 -172.09,-64.81 -170.45,-65.33 -168.77,-65.7 -167.07,-65.93 -165.35,-66 -129.92,-66
Bottom Layer:
  region: 129.92,-66 165.35,-66 167.07,-65.93 168.77,-65.7 170.45,-65.33 172.09,-64.81 173.67,-64.16 175.2,-63.36 176.64,-62.44 178.01,-61.39 179.27,-60.23 180.43,-58.97 181.48,-57.61 182.4,-56.16 183.19,-54.63 183.85,-53.05 184.37,-51.41 184.74,-49.73 184.96,-48.03 185.04,-46.31 185.04,-6.68 184.96,-4.97 184.74,-3.27 184.37,-1.59 183.85,0.05 183.19,1.63 182.4,3.16 181.48,4.61 180.43,5.97 179.27,7.23 178.01,8.39 176.64,9.44 175.2,10.36 173.67,11.16 172.09,11.81 170.45,12.33 168.77,12.7 167.07,12.93 165.35,13 129.92,13
  region: 129.92,-66 165.35,-66 167.07,-65.93 168.77,-65.7 170.45,-65.33 172.09,-64.81 173.67,-64.16 175.2,-63.36 176.64,-62.44 178.01,-61.39 179.27,-60.23 180.43,-58.97 181.48,-57.61 182.4,-56.16 183.19,-54.63 183.85,-53.05 184.37,-51.41 184.74,-49.73 184.96,-48.03 185.04,-46.31 185.04,-6.68 184.96,-4.97 184.74,-3.27 184.37,-1.59 183.85,0.05 183.19,1.63 182.4,3.16 181.48,4.61 180.43,5.97 179.27,7.23 178.01,8.39 176.64,9.44 175.2,10.36 173.67,11.16 172.09,11.81 170.45,12.33 168.77,12.7 167.07,12.93 165.35,13 129.92,13
  region: -129.92,13 -165.35,13 -167.07,12.93 -168.77,12.7 -170.45,12.33 -172.09,11.81 -173.67,11.16 -175.2,10.36 -176.64,9.44 -178.01,8.39 -179.27,7.23 -180.43,5.97 -181.48,4.61 -182.4,3.16 -183.19,1.63 -183.85,0.05 -184.37,-1.59 -184.74,-3.27 -184.96,-4.97 -185.04,-6.68 -185.04,-46.31 -184.96,-48.03 -184.74,-49.73 -184.37,-51.41 -183.85,-53.05 -183.19,-54.63 -182.4,-56.16 -181.48,-57.61 -180.43,-58.97 -179.27,-60.23 -178.01,-61.39 -176.64,-62.44 -175.2,-63.36 -173.67,-64.16 -172.09,-64.81 -170.45,-65.33 -168.77,-65.7 -167.07,-65.93 -165.35,-66 -129.92,-66
  region: -129.92,13 -165.35,13 -167.07,12.93 -168.77,12.7 -170.45,12.33 -172.09,11.81 -173.67,11.16 -175.2,10.36 -176.64,9.44 -178.01,8.39 -179.27,7.23 -180.43,5.97 -181.48,4.61 -182.4,3.16 -183.19,1.63 -183.85,0.05 -184.37,-1.59 -184.74,-3.27 -184.96,-4.97 -185.04,-6.68 -185.04,-46.31 -184.96,-48.03 -184.74,-49.73 -184.37,-51.41 -183.85,-53.05 -183.19,-54.63 -182.4,-56.16 -181.48,-57.61 -180.43,-58.97 -179.27,-60.23 -178.01,-61.39 -176.64,-62.44 -175.2,-63.36 -173.67,-64.16 -172.09,-64.81 -170.45,-65.33 -168.77,-65.7 -167.07,-65.93 -165.35,-66 -129.92,-66
Top Overlay:
  lines w6: 30,138.5 70,138.5 50,118.5 30,138.5 ; 30,138.5 -195,138.5 -195,-96.5 195,-96.5 195,138.5 30,138.5 ; -40,-141.5 0,-101.5 40,-141.5 15,-141.5 15,-216.5 -15,-216.5 -15,-141.5 -40,-141.5
  text "5" at -63.33,153.91 h20
  text ".Designator" at -122,150.41 h30
Top Solder:
  drawing of 4 lines, arcs and shapes, not listed
Bottom Solder:
  drawing of 4 lines, arcs and shapes, not listed
Top Courtyard:
  dashed: -192.04,-138.5 -192.04,127.11 192.04,127.11 192.04,-138.5
Top 3D Body:
  region: -195,-96.5 195,-96.5 195,138.5 -195,138.5
Mechanical 10:
  lines w6: -150,-111.5 -160,-131.5 -150,-131.5 -140,-111.5 -150,-111.5 ; -150,-111.5 100,-111.5 ; -150,-111.5 -150,108.5 30,108.5 ; 30,108.5 150,108.5 150,-111.5 ; 30,108.5 70,108.5 50,88.5 30,108.5 ; 100,-111.5 -100,-111.5 -100,-121.5 ccw(c-90,-121.5) -90,-131.5 90,-131.5 ccw(c90,-121.5) 100,-121.5 100,-111.5 ; 100,-111.5 150,-111.5 ; 150,-111.5 140,-111.5 150,-131.5 160,-131.5 150,-111.5
  text "J3" at 20,-20.59 h30
Mechanical 11:
  lines w6: -150,-111.5 -160,-131.5 -150,-131.5 -140,-111.5 -150,-111.5 ; -150,-111.5 100,-111.5 ; -150,-111.5 -150,108.5 30,108.5 ; 30,108.5 150,108.5 150,-111.5 ; 30,108.5 70,108.5 50,88.5 30,108.5 ; 100,-111.5 -100,-111.5 -100,-121.5 ccw(c-90,-121.5) -90,-131.5 90,-131.5 ccw(c90,-121.5) 100,-121.5 100,-111.5 ; 100,-111.5 150,-111.5 ; 150,-111.5 140,-111.5 150,-131.5 160,-131.5 150,-111.5
  text "J3" at 20,-20.59 h30
Mechanical 12:
  lines w6: -150,-111.5 -160,-131.5 -150,-131.5 -140,-111.5 -150,-111.5 ; -150,-111.5 100,-111.5 ; -150,-111.5 -150,108.5 30,108.5 ; 30,108.5 150,108.5 150,-111.5 ; 30,108.5 70,108.5 50,88.5 30,108.5 ; 100,-111.5 -100,-111.5 -100,-121.5 ccw(c-90,-121.5) -90,-131.5 90,-131.5 ccw(c90,-121.5) 100,-121.5 100,-111.5 ; 100,-111.5 150,-111.5 ; 150,-111.5 140,-111.5 150,-131.5 160,-131.5 150,-111.5
  text "J3" at 20,-20.59 h30
Mechanical 13:
  lines w6: -150,-111.5 -160,-131.5 -150,-131.5 -140,-111.5 -150,-111.5 ; -150,-111.5 100,-111.5 ; -150,-111.5 -150,108.5 30,108.5 ; 30,108.5 150,108.5 150,-111.5 ; 30,108.5 70,108.5 50,88.5 30,108.5 ; 100,-111.5 -100,-111.5 -100,-121.5 ccw(c-90,-121.5) -90,-131.5 90,-131.5 ccw(c90,-121.5) 100,-121.5 100,-111.5 ; 100,-111.5 150,-111.5 ; 150,-111.5 140,-111.5 150,-131.5 160,-131.5 150,-111.5
  text "J3" at 20,-20.59 h30
Mechanical 14:
  lines w6: -150,-111.5 -160,-131.5 -150,-131.5 -140,-111.5 -150,-111.5 ; -150,-111.5 100,-111.5 ; -150,-111.5 -150,108.5 30,108.5 ; 30,108.5 150,108.5 150,-111.5 ; 30,108.5 70,108.5 50,88.5 30,108.5 ; 100,-111.5 -100,-111.5 -100,-121.5 ccw(c-90,-121.5) -90,-131.5 90,-131.5 ccw(c90,-121.5) 100,-121.5 100,-111.5 ; 100,-111.5 150,-111.5 ; 150,-111.5 140,-111.5 150,-131.5 160,-131.5 150,-111.5
  text "J3" at 20,-20.59 h30
Multi-Layer keep-out:
  region: -190,-83.59 -110.24,-83.59 -110.24,-19.85 -110.02,-18.39 -109.68,-16.97 -109.22,-15.57 -108.63,-14.23 -107.94,-12.94 -107.13,-11.71 -106.22,-10.56 -105.21,-9.5 -104.11,-8.52 -102.93,-7.65 -101.68,-6.88 -100.37,-6.22 -99.01,-5.68 -97.6,-5.26 -96.16,-4.97 -94.7,-4.8 -93.24,-4.76 -91.77,-4.85 -90.32,-5.06 -88.89,-5.4 -87.5,-5.86 -86.15,-6.45 -84.86,-7.15 -83.64,-7.95 -82.49,-8.87 -81.42,-9.87 -80.45,-10.97 -79.57,-12.15 -78.8,-13.4 -78.15,-14.71 -77.61,-16.08 -77.19,-17.48 -76.89,-18.92 -76.77,-19.85 -76.77,-83.59 76.77,-83.59 76.77,-19.85 76.99,-18.39 77.33,-16.97 77.79,-15.57 78.37,-14.23 79.07,-12.94 79.88,-11.71 80.79,-10.56 81.8,-9.5 82.9,-8.52 84.08,-7.65 85.33,-6.88 86.64,-6.22 88,-5.68 89.41,-5.26 90.85,-4.97 92.3,-4.8 93.77,-4.76 95.24,-4.85 96.69,-5.06 98.12,-5.4 99.51,-5.86 100.85,-6.45 102.14,-7.15 103.37,-7.95 104.52,-8.87 105.59,-9.87 106.56,-10.97 107.43,-12.15 108.2,-13.4 108.86,-14.71 109.4,-16.08 109.82,-17.48 110.11,-18.92 110.24,-19.85 110.24,-83.59 190,-83.59 190,-111.5 -190,-111.5
Mechanical47:
  text "3" at 0,74.81 h10
  text "10" at 0,-34.5 h10
  text "9" at 157.48,-33.83 h10
  text "8" at -157.48,-33.83 h10
  text "7" at -87.6,87.61 h10
  text "6" at 87.6,87.61 h10
  text "2" at 25.59,74.81 h10
  text "4" at -25.59,74.81 h10
  text "1" at 51.18,74.81 h10
  text "5" at -51.18,74.81 h10
Top Assembly:
  lines w6: -150,-111.5 -150,108.5 30,108.5 ; -150,-111.5 -160,-131.5 -150,-131.5 -140,-111.5 -150,-111.5 ; -150,-111.5 100,-111.5 ; 30,108.5 70,108.5 50,88.5 30,108.5 ; 30,108.5 150,108.5 150,-111.5 ; 100,-111.5 -100,-111.5 -100,-121.5 ccw(c-90,-121.5) -90,-131.5 90,-131.5 ccw(c90,-121.5) 100,-121.5 100,-111.5 ; 100,-111.5 150,-111.5 ; 150,-111.5 140,-111.5 150,-131.5 160,-131.5 150,-111.5
3D body: height 150, standoff 0, extent -195,-96.5 195,138.5

## D2PAK-3 [mil] "D2PAK-3"
pads (3):
  rect 50x135 smd: 1(-100,-250.25) 3(100,-250.25)
  rect 420x355 smd: 4(0,139.75)
Top Overlay:
  lines w6: -262.36,-274.14 -262.36,-234.14 -242.36,-254.14 -262.36,-274.14 ; -225,-335 225,-335 225,335 -225,335 -225,-335
  text ".Designator" at 92.41,394.69 h30
  text "3" at 129.12,-340.44 h25
Top Courtyard:
  dashed: -217,-324.75 -217,324.25 217,324.25 217,-324.75
Top 3D Body:
  region: -225,-335 225,-335 225,335 -225,335
Mechanical 10:
  lines w6: -135,-72.75 -135,-207.75 -120,-207.75 -120,-317.25 -80,-317.25 -80,-207.75 -65,-207.75 -65,-72.75 ; -35,-72.75 -35,-142.75 35,-142.75 35,-72.75 ; 65,-72.75 65,-207.75 80,-207.75 80,-317.25 120,-317.25 120,-207.75 135,-207.75 135,-72.75 ; -205,242.25 -205,277.25 -135,307.25 135,307.25 205,277.25 205,242.25 ; -205,242.25 205,242.25 ; -205,242.25 -205,-72.75 205,-72.75 205,242.25 ; -120,-335 -100,-315 -80,-335 -120,-335
  text "Q2" at -15,119 h30
Mechanical 11:
  lines w6: -135,-72.75 -135,-207.75 -120,-207.75 -120,-317.25 -80,-317.25 -80,-207.75 -65,-207.75 -65,-72.75 ; -35,-72.75 -35,-142.75 35,-142.75 35,-72.75 ; 65,-72.75 65,-207.75 80,-207.75 80,-317.25 120,-317.25 120,-207.75 135,-207.75 135,-72.75 ; -205,242.25 -205,277.25 -135,307.25 135,307.25 205,277.25 205,242.25 ; -205,242.25 205,242.25 ; -205,242.25 -205,-72.75 205,-72.75 205,242.25 ; -120,-335 -100,-315 -80,-335 -120,-335
  text "Q2" at -15,119 h30
Mechanical 12:
  lines w6: -135,-72.75 -135,-207.75 -120,-207.75 -120,-317.25 -80,-317.25 -80,-207.75 -65,-207.75 -65,-72.75 ; -35,-72.75 -35,-142.75 35,-142.75 35,-72.75 ; 65,-72.75 65,-207.75 80,-207.75 80,-317.25 120,-317.25 120,-207.75 135,-207.75 135,-72.75 ; -205,242.25 -205,277.25 -135,307.25 135,307.25 205,277.25 205,242.25 ; -205,242.25 205,242.25 ; -205,242.25 -205,-72.75 205,-72.75 205,242.25 ; -120,-335 -100,-315 -80,-335 -120,-335
  text "Q2" at -15,119 h30
Mechanical 13:
  lines w6: -135,-72.75 -135,-207.75 -120,-207.75 -120,-317.25 -80,-317.25 -80,-207.75 -65,-207.75 -65,-72.75 ; -35,-72.75 -35,-142.75 35,-142.75 35,-72.75 ; 65,-72.75 65,-207.75 80,-207.75 80,-317.25 120,-317.25 120,-207.75 135,-207.75 135,-72.75 ; -205,242.25 -205,277.25 -135,307.25 135,307.25 205,277.25 205,242.25 ; -205,242.25 205,242.25 ; -205,242.25 -205,-72.75 205,-72.75 205,242.25 ; -120,-335 -100,-315 -80,-335 -120,-335
  text "Q2" at -15,119 h30
Mechanical 14:
  lines w6: -135,-72.75 -135,-207.75 -120,-207.75 -120,-317.25 -80,-317.25 -80,-207.75 -65,-207.75 -65,-72.75 ; -35,-72.75 -35,-142.75 35,-142.75 35,-72.75 ; 65,-72.75 65,-207.75 80,-207.75 80,-317.25 120,-317.25 120,-207.75 135,-207.75 135,-72.75 ; -205,242.25 -205,277.25 -135,307.25 135,307.25 205,277.25 205,242.25 ; -205,242.25 205,242.25 ; -205,242.25 -205,-72.75 205,-72.75 205,242.25 ; -120,-335 -100,-315 -80,-335 -120,-335
  text "Q2" at -15,119 h30
Mechanical47:
  text "1" at -100,-246.25 h10
  text "3" at 100,-246.25 h10
  text "4" at 0,143.75 h10
Top Assembly:
  lines w6: -135,-72.75 -135,-207.75 -120,-207.75 -120,-317.25 -80,-317.25 -80,-207.75 -65,-207.75 -65,-72.75 ; -35,-72.75 -35,-142.75 35,-142.75 35,-72.75 ; 65,-72.75 65,-207.75 80,-207.75 80,-317.25 120,-317.25 120,-207.75 135,-207.75 135,-72.75 ; -205,242.25 205,242.25 ; -205,242.25 -205,-72.75 205,-72.75 205,242.25 ; -205,242.25 -205,277.25 -135,307.25 135,307.25 205,277.25 205,242.25 ; -120,-335 -100,-315 -80,-335 -120,-335
3D body: height 150, standoff 0, extent -225,-335 225,335

## DFN8_25-59_120X120_1 [mil] "DFN8_25-59_120X120_1"
pads (9):
  rect 35x14 smd: 1(57.09,-38.39) 2(57.09,-12.8) 3(57.09,12.8) 4(57.09,38.39) 5(-57.09,38.39) 6(-57.09,12.8) 7(-57.09,-12.8) 8(-57.09,-38.39)
  rect 63x94 smd: 9(0,0)
Top Overlay:
  lines w6: -70,-60 -70,-75 70,-75 70,-70 ; -70,60 -70,70 70,70 70,60 ; 70,-60 70,-70 ; 70,-70 -70,-70 70,-70 ; 82.85,-96.41 104.06,-75.2 82.85,-75.2 82.85,-96.41
  text "8" at -84.35,-30.5 h20
  text "4" at 65.65,109.5 h20
  text "5" at -54.35,99.5 h20
Top Courtyard:
  dashed: 81.59,67 81.59,-67 -81.59,-67 -81.59,67
Top 3D Body:
  region: 84.5,69 84.5,-69 -84.5,-69 -84.5,69
Mechanical 15:
  lines w6: 60,-50 60,-60 -60,-60 -60,60 60,60 60,-50 ; 60,-50 -60,-50 60,-50 ; 62.5,-40 77.5,-25 77.5,-55 62.5,-40
  text "U62" at 37.15,24.5 h30
Mechanical 16:
  lines w6: 60,-50 60,-60 -60,-60 -60,60 60,60 60,-50 ; 60,-50 -60,-50 60,-50 ; 62.5,-40 77.5,-25 77.5,-55 62.5,-40
  text "U62" at 37.15,24.5 h30
Mechanical 17:
  lines w6: 60,-50 60,-60 -60,-60 -60,60 60,60 60,-50 ; 60,-50 -60,-50 60,-50 ; 62.5,-40 77.5,-25 77.5,-55 62.5,-40
  text "U62" at 37.15,24.5 h30
Mechanical 18:
  lines w6: 60,-50 60,-60 -60,-60 -60,60 60,60 60,-50 ; 60,-50 -60,-50 60,-50 ; 62.5,-40 77.5,-25 77.5,-55 62.5,-40
  text "U62" at 37.15,24.5 h30
Mechanical 19:
  lines w6: 60,-50 60,-60 -60,-60 -60,60 60,60 60,-50 ; 60,-50 -60,-50 60,-50 ; 62.5,-40 77.5,-25 77.5,-55 62.5,-40
  text "U62" at 37.15,24.5 h30
Mechanical47:
  text "2" at 41.75,-8.46 h10
  text "5" at -72.42,42.72 h10
  text "1" at 41.75,-34.05 h10
  text "4" at 41.75,42.72 h10
  text "9" at -16,6.67 h10
  text "3" at 41.75,17.13 h10
  text "8" at -72.42,-34.05 h10
  text "7" at -72.42,-8.46 h10
  text "6" at -72.42,17.13 h10
Top Assembly:
  lines w6: 60,-50 -60,-50 60,-50 ; 60,-50 60,60 -60,60 -60,-60 60,-60 60,-50 ; 62.5,-40 77.5,-25 77.5,-55 62.5,-40
  text ".Designator" at 37.15,24.5 h30
3D body: height 150, standoff 0, extent -84.5,-69 84.5,69

## DFN10_15-74_80X80_0-8 [mil] "DFN10_15-74_80X80_0-8"
pads (11):
  rect 28x8 smd: 1(-41.34,31.5) 2(-41.34,15.75) 3(-41.34,0) 4(-41.34,-15.75) 5(-41.34,-31.5) 6(41.34,-31.5) 7(41.34,-15.75) 8(41.34,0) 9(41.34,15.75) 10(41.34,31.5)
  rect 37x63 smd: 11(0,0)
Top Overlay:
  lines w6: -40,-50 40,-50 ; -67.5,57.52 -47.5,57.52 -57.5,47.52 -67.5,57.52 ; -40,50 40,50 40,55 -40,55 -40,50
  text ".Designator" at -31.5,-107.48 h30
  text "5" at -70,-67.48 h20
  text "6" at 55,-67.48 h20
  text "10" at 56.5,42.52 h20
Top Courtyard:
  dashed: -61.34,-47 -61.34,47 61.34,47 61.34,-47
Top 3D Body:
  region: -65,-51 -65,51 65,51 65,-51
Mechanical 10:
  lines w6: -40,30 -40,40 40,40 40,-40 -40,-40 -40,30 ; -40,30 40,30 -40,30 ; -50,25 -50,45 -40,35 -50,25
  text "U10" at -38.5,-87.48 h30
Mechanical 11:
  lines w6: -40,30 -40,40 40,40 40,-40 -40,-40 -40,30 ; -40,30 40,30 -40,30 ; -50,25 -50,45 -40,35 -50,25
  text "U10" at -38.5,-87.48 h30
Mechanical 12:
  lines w6: -40,30 -40,40 40,40 40,-40 -40,-40 -40,30 ; -40,30 40,30 -40,30 ; -50,25 -50,45 -40,35 -50,25
  text "U10" at -38.5,-87.48 h30
Mechanical 13:
  lines w6: -40,30 -40,40 40,40 40,-40 -40,-40 -40,30 ; -40,30 40,30 -40,30 ; -50,25 -50,45 -40,35 -50,25
  text "U10" at -38.5,-87.48 h30
Mechanical 14:
  lines w6: -40,30 -40,40 40,40 40,-40 -40,-40 -40,30 ; -40,30 40,30 -40,30 ; -50,25 -50,45 -40,35 -50,25
  text "U10" at -38.5,-87.48 h30
Mechanical47:
  text "7" at 37.34,-20.75 h10
  text "9" at 37.34,10.75 h10
  text "2" at -45.34,10.75 h10
  text "10" at 33.34,26.5 h10
  text "1" at -45.34,26.5 h10
  text "3" at -45.34,-5 h10
  text "5" at -45.34,-36.5 h10
  text "8" at 37.34,-5 h10
  text "4" at -45.34,-20.75 h10
  text "11" at -8,0 h10
  text "6" at 37.34,-36.5 h10
Top Assembly:
  lines w6: -40,30 40,30 -40,30 ; -40,30 -40,-40 40,-40 40,40 -40,40 -40,30 ; -50,25 -50,45 -40,35 -50,25
3D body: height 150, standoff 0, extent -65,-51 65,51

## DIO_DFN0402 [mil] "DIO_DFN0402"
pads (2):
  rect 20x26 smd: 1(-16.54,0) 2(16.54,0)
Top Overlay:
  lines w6: -20,-25 20,-25 ; -20,25 20,25
  text ".Designator" at -116.12,-12.5 h30
Top Courtyard:
  dashed: -33.54,20 -33.54,-20 33.54,-20 33.54,20
Top 3D Body:
  region: -31.5,-17.5 -31.5,17.5 31.5,17.5 31.5,-17.5
Mechanical 10:
  lines w6: -19.5,15 -22.5,15 ; -10,-15 -10,15 ; -22.5,15 -22.5,-15 22.5,-15 22.5,15 -22.5,15
  text "D13" at -108.12,-15.5 h30
Mechanical 11:
  lines w6: -19.5,15 -22.5,15 ; -10,-15 -10,15 ; -22.5,15 -22.5,-15 22.5,-15 22.5,15 -22.5,15
  text "D13" at -108.12,-15.5 h30
Mechanical 12:
  lines w6: -19.5,15 -22.5,15 ; -10,-15 -10,15 ; -22.5,15 -22.5,-15 22.5,-15 22.5,15 -22.5,15
  text "D13" at -108.12,-15.5 h30
Mechanical 13:
  lines w6: -19.5,15 -22.5,15 ; -10,-15 -10,15 ; -22.5,15 -22.5,-15 22.5,-15 22.5,15 -22.5,15
  text "D13" at -108.12,-15.5 h30
Mechanical 14:
  lines w6: -19.5,15 -22.5,15 ; -10,-15 -10,15 ; -22.5,15 -22.5,-15 22.5,-15 22.5,15 -22.5,15
  text "D13" at -108.12,-15.5 h30
Mechanical47:
  text "2" at 17.54,0.67 h10
  text "1" at -16.54,0.67 h10
Top Assembly:
  lines w6: -19.5,15 -22.5,15 ; -10,-15 -10,15 ; -22.5,15 -22.5,-15 22.5,-15 22.5,15 -22.5,15
3D body: height 150, standoff 0, extent -31.5,-17.5 31.5,17.5

## DIO_SMA [mil] "DIO_SMA"
pads (2):
  rect 74x65 smd: 1(-81.1,0) 2(81.1,0)
Top Overlay:
  lines w6: -100,-45 -100,-65 -80,-65 ; -100,45 -100,65 -80,65 ; 90,-65 -80,-65 ; 90,65 -80,65 ; -80,-65 -80,-45 -80,-65 ; -80,65 -80,45 -80,65
  text ".Designator" at -137.5,-19.5 h30
Top Courtyard:
  dashed: -125.1,-62 -125.1,62 125.1,62 125.1,-62
Top 3D Body:
  region: -125,-65 -125,65 125,65 125,-65
Mechanical 10:
  lines w6: -90,0 -90,55 -70,55 ; -90,0 -90,30 -110,30 -110,-30 -90,-30 -90,0 ; -90,0 -90,-55 -70,-55 ; -70,-55 -70,0 ; -70,-55 -70,0 ; -70,-55 90,-55 90,0 ; -70,0 -70,55 ; -70,0 -70,55 ; -70,55 90,55 90,0 ; 90,0 90,-30 110,-30 110,30 90,30 90,0
  text "D1" at 17.5,-24.5 h30
Mechanical 11:
  lines w6: -90,0 -90,55 -70,55 ; -90,0 -90,30 -110,30 -110,-30 -90,-30 -90,0 ; -90,0 -90,-55 -70,-55 ; -70,-55 -70,0 ; -70,-55 -70,0 ; -70,-55 90,-55 90,0 ; -70,0 -70,55 ; -70,0 -70,55 ; -70,55 90,55 90,0 ; 90,0 90,-30 110,-30 110,30 90,30 90,0
  text "D1" at 17.5,-24.5 h30
Mechanical 12:
  lines w6: -90,0 -90,55 -70,55 ; -90,0 -90,30 -110,30 -110,-30 -90,-30 -90,0 ; -90,0 -90,-55 -70,-55 ; -70,-55 -70,0 ; -70,-55 -70,0 ; -70,-55 90,-55 90,0 ; -70,0 -70,55 ; -70,0 -70,55 ; -70,55 90,55 90,0 ; 90,0 90,-30 110,-30 110,30 90,30 90,0
  text "D1" at 17.5,-24.5 h30
Mechanical 13:
  lines w6: -90,0 -90,55 -70,55 ; -90,0 -90,30 -110,30 -110,-30 -90,-30 -90,0 ; -90,0 -90,-55 -70,-55 ; -70,-55 -70,0 ; -70,-55 -70,0 ; -70,-55 90,-55 90,0 ; -70,0 -70,55 ; -70,0 -70,55 ; -70,55 90,55 90,0 ; 90,0 90,-30 110,-30 110,30 90,30 90,0
  text "D1" at 17.5,-24.5 h30
Mechanical 14:
  lines w6: -90,0 -90,55 -70,55 ; -90,0 -90,30 -110,30 -110,-30 -90,-30 -90,0 ; -90,0 -90,-55 -70,-55 ; -70,-55 -70,0 ; -70,-55 -70,0 ; -70,-55 90,-55 90,0 ; -70,0 -70,55 ; -70,0 -70,55 ; -70,55 90,55 90,0 ; 90,0 90,-30 110,-30 110,30 90,30 90,0
  text "D1" at 17.5,-24.5 h30
Mechanical47:
  text "2" at 81.1,-4 h10
  text "1" at -81.1,-4 h10
Top Assembly:
  lines w6: -90,0 -90,30 -110,30 -110,-30 -90,-30 -90,0 ; -90,0 -90,-55 -70,-55 ; -90,0 -90,55 -70,55 ; -70,-55 -70,0 ; -70,-55 90,-55 90,0 ; -70,-55 -70,0 ; -70,0 -70,55 ; -70,0 -70,55 ; -70,55 90,55 90,0 ; 90,0 90,-30 110,-30 110,30 90,30 90,0
3D body: height 150, standoff 0, extent -125,-65 125,65

## DIO_SMB_2-5 [mil] "DIO_SMB_2-5"
pads (2):
  rect 89x85 smd: 1(-86.61,0) 2(86.61,0)
Top Overlay:
  lines w6: 100,-60 100,-90 -115,-90 ; 100,60 100,90 -110,90 -110,60 -115,60 ; -115,-90 -100,-90 ; -115,-90 -115,-60 ; -115,-90 -100,-90 ; -115,-60 -110,-60 -110,-90 -105,-90 -105,-60 -100,-60 ; -115,-60 -100,-60 ; -115,-60 -100,-60 ; -115,60 -105,60 -105,90 -115,90 -115,60 ; -115,60 -100,60 ; -100,-90 -100,-60 ; -100,-90 -100,-60 ; -100,60 -100,90 -100,60
  text ".Designator" at -174.5,33.89 h30
Top Courtyard:
  dashed: -138.11,-87 -138.11,87 138.11,87 138.11,-87
Top 3D Body:
  region: -141.5,-88.5 -141.5,88.5 141.5,88.5 141.5,-88.5
Mechanical 10:
  lines w6: -90,-80 -85,-80 -85,80 -80,80 -80,-80 -90,-80 ; -90,-80 90,-80 90,80 -75,80 ; -90,-80 -90,80 -75,80 ; -75,80 -75,-80 -75,80
  text "D8" at -10,22 h30
Mechanical 11:
  lines w6: -90,-80 -85,-80 -85,80 -80,80 -80,-80 -90,-80 ; -90,-80 90,-80 90,80 -75,80 ; -90,-80 -90,80 -75,80 ; -75,80 -75,-80 -75,80
  text "D8" at -10,22 h30
Mechanical 12:
  lines w6: -90,-80 -85,-80 -85,80 -80,80 -80,-80 -90,-80 ; -90,-80 90,-80 90,80 -75,80 ; -90,-80 -90,80 -75,80 ; -75,80 -75,-80 -75,80
  text "D8" at -10,22 h30
Mechanical 13:
  lines w6: -90,-80 -85,-80 -85,80 -80,80 -80,-80 -90,-80 ; -90,-80 90,-80 90,80 -75,80 ; -90,-80 -90,80 -75,80 ; -75,80 -75,-80 -75,80
  text "D8" at -10,22 h30
Mechanical 14:
  lines w6: -90,-80 -85,-80 -85,80 -80,80 -80,-80 -90,-80 ; -90,-80 90,-80 90,80 -75,80 ; -90,-80 -90,80 -75,80 ; -75,80 -75,-80 -75,80
  text "D8" at -10,22 h30
Mechanical47:
  text "1" at -86.61,4 h10
  text "2" at 86.61,4 h10
Top Assembly:
  lines w6: -90,-80 -90,80 -75,80 ; -90,-80 -85,-80 -85,80 -80,80 -80,-80 -90,-80 ; -90,-80 90,-80 90,80 -75,80 ; -75,80 -75,-80 -75,80
3D body: height 150, standoff 0, extent -141.5,-88.5 141.5,88.5